# Altium schematic symbol library UBT1E331MPD1TD.SchLib: 2 symbols
Pins are listed as number, name and electrical type; pins without a type are passive.

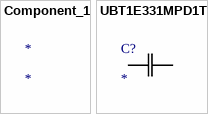
[diagram p0: symbols Component_1 to UBT1E331MPD1TD]

## Component_1
designator *

## UBT1E331MPD1TD
designator C?
No Description Available; Mfr_Name: Nichicon
footprint U1-S_NCH
pins: 1, 2